# Altium schematic symbol library 05E_IC.SchLib: 9 symbols
Pins are listed as number, name and electrical type; pins without a type are passive.

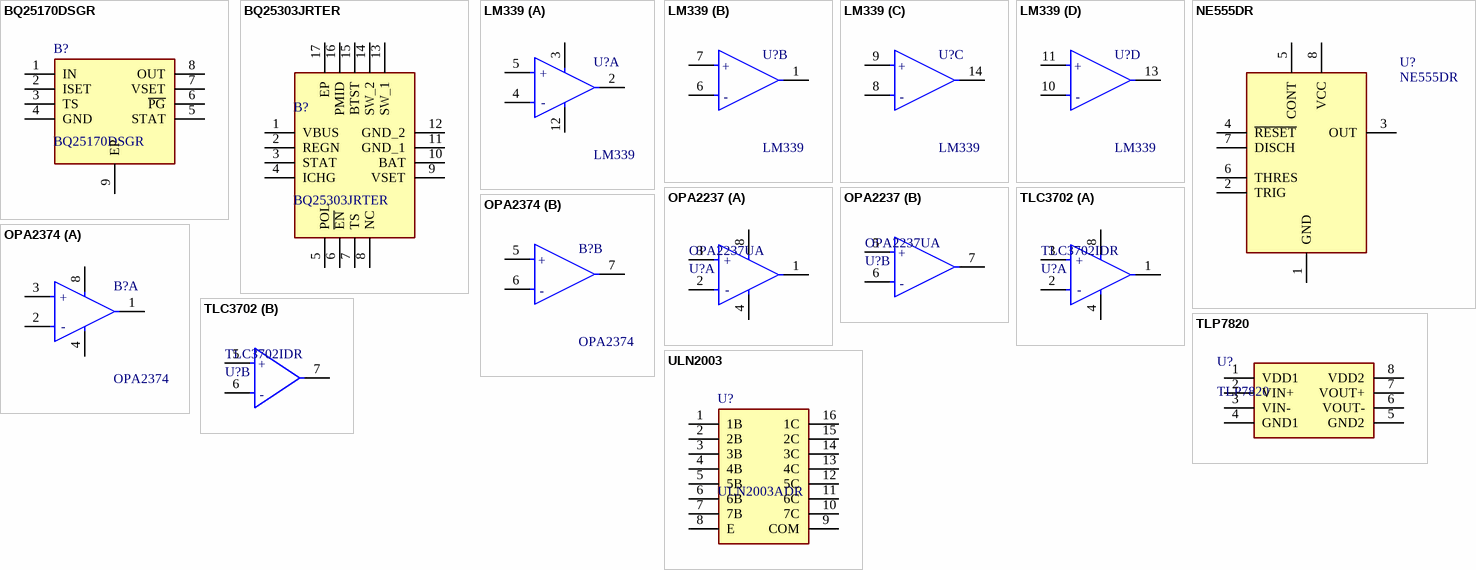
[diagram p0: symbols BQ25170DSGR to ULN2003]

## BQ25170DSGR
designator B?
Manufacturer_Name: Texas Instruments; Geometry.Height: 0.8mm; Mouser Part Number: 595-BQ25170DSGR; Mouser Price/Stock: https://www.mouser.co.uk/ProductDetail/Texas-Instruments/BQ25170DSGR?qs=iLbezkQI%252BsiCISFdSxQWaQ%3D%3D; Manufacturer_Part_Number: BQ25170DSGR; Datasheet Link: https://www.ti.com/lit/gpn/bq25170
footprint BQ25170_WSON8
pins: 1 IN, 2 ISET, 3 TS, 4 GND, 5 STAT, 6 ~{PG}, 7 VSET, 8 OUT, 9 EP

## BQ25303JRTER
designator B?
Battery Management Standalone 1-cell 17-V, 3.0-A battery charger with JEITA battery temperature monitoring 16-WQFN -40 to 85; Manufacturer_Name: Texas Instruments; Geometry.Height: 0.8mm; Mouser Part Number: 595-BQ25303JRTER; Mouser Price/Stock: https://www.mouser.co.uk/ProductDetail/Texas-Instruments/BQ25303JRTER?qs=DRkmTr78QARA1C7%2F12q3og%3D%3D; Manufacturer_Part_Number: BQ25303JRTER; Datasheet Link: https://www.ti.com/lit/ds/symlink/bq25303j.pdf?ts=1614639374775&ref_url=https%253A%252F%252Fwww.ti.com%252Fpower-management%252Fbattery-management%252Fcharger-ics%252Fproducts.html
footprint BQ25303J-QFN17N
pins: 1 VBUS, 2 REGN, 3 STAT, 4 ICHG, 5 POL, 6 ~{EN}, 7 TS, 8 NC, 9 VSET, 10 BAT, 11 GND_1, 12 GND_2, 13 SW_1, 14 SW_2, 15 BTST, 16 PMID, 17 EP

## LM339
designator U?
Quad Differential Comparator; Manufacturer_Name: Texas Instruments; Manufacturer_Part_Number: LM339PWRG4; Geometry.Height: 1.2mm; Datasheet Link: http://www.ti.com/lit/gpn/LM339
footprint LM339_TSSOP14N
part A pins: 2 1OUT, 3 VDD (power), 4 1IN- (hiz), 5 1IN+ (hiz), 12 GND (power)
part B pins: 1 2OUT, 6 2IN- (hiz), 7 2IN+ (hiz)
part C pins: 8 3IN- (hiz), 9 3IN+ (hiz), 14 3OUT
part D pins: 10 4IN- (hiz), 11 4IN+ (hiz), 13 4OUT
part A text: +; -
part B text: +; -
part C text: +; -
part D text: +; -

## NE555DR
designator U?
Single Precision Timer; Manufacturer_Name: Texas Instruments; Geometry.Height: 1.75mm; Manufacturer_Part_Number: NE555DR; Datasheet Link: https://www.ti.com/lit/gpn/ne555
footprint NE555DR_SOIC8N
pins: 1 GND, 2 TRIG, 3 OUT, 4 ~{RESET}, 5 CONT, 6 THRES, 7 DISCH, 8 VCC

## OPA2237
designator U?, comment OPA2237UA
Single-Supply Operational Amplifiers MicroAmplifier Series; Common Mode Rejection Ratio: 84dB; Power Supply Rejection Ratio (PSRR): 85dB; Output Current per Channel: 8mA; Max Supply Current: 20uA; Input Bias Current: 5pA; Min Supply Voltage: 3V; Propagation Delay: 4.5us; Input Offset Voltage (Vos): 5mV; Output Current: 20mA; Max Power Dissipation: 725mW; Output Type: TTL; Quiescent Current: 65uA; Number of Elements: 2; Nominal Supply Current: 40uA; Max Supply Voltage: 16V; Response Time: 1.1us; Operating Supply Voltage: 5V; Contact Plating: Gold; Case/Package: SOIC; Type: General Purpose; Package Quantity: 1; Max Operating Temperature: 85°C; Weight: 0.002561oz; Min Operating Temperature: -40°C; Length: 4.9mm; Number of Pins: 8; RoHS Compliant: Yes; Height: 1.58mm; Power Dissipation: 725mW; Packaging: Tape and Reel; Max Input Current: 5pA; REACH SVHC: No SVHC; Radiation Hardening: No; Mount: Surface Mount; Lead Free: Lead Free; Number of Channels: 2; Width: 3.91mm
footprint OPA2237_SOIC8N
part A pins: 1 1OUT, 2 1IN- (hiz), 3 1IN+ (hiz), 4 GND (power), 8 VDD (power)
part B pins: 5 2IN+ (hiz), 6 2IN- (hiz), 7 2OUT
part A text: +; -
part B text: +; -

## OPA2374
designator B?
Texas Instruments OPA2374AID, Dual Op Amp, 6.5MHz CMOS, Rail to Rail, 3 V, 5 V, 8-Pin SOIC; Geometry.Height: 1.75mm; Manufacturer_Name: Texas Instruments; Manufacturer_Part_Number: OPA2374AID; Datasheet Link: http://www.ti.com/lit/gpn/opa2374
footprint OPA2374_SOIC8
part A pins: 1 1OUT, 2 1IN- (hiz), 3 1IN+ (hiz), 4 GND (power), 8 VDD (power)
part B pins: 5 2IN+ (hiz), 6 2IN- (hiz), 7 2OUT
part A text: +; -
part B text: +; -

## TLC3702
designator U?, comment TLC3702IDR
IC DUAL V COMP 8-SOIC; Common Mode Rejection Ratio: 84dB; Power Supply Rejection Ratio (PSRR): 85dB; Output Current per Channel: 8mA; Max Supply Current: 20uA; Input Bias Current: 5pA; Min Supply Voltage: 3V; Propagation Delay: 4.5us; Input Offset Voltage (Vos): 5mV; Output Current: 20mA; Max Power Dissipation: 725mW; Output Type: TTL; Quiescent Current: 65uA; Number of Elements: 2; Nominal Supply Current: 40uA; Max Supply Voltage: 16V; Response Time: 1.1us; Operating Supply Voltage: 5V; Contact Plating: Gold; Case/Package: SOIC; Type: General Purpose; Package Quantity: 1; Max Operating Temperature: 85°C; Weight: 0.002561oz; Min Operating Temperature: -40°C; Length: 4.9mm; Number of Pins: 8; RoHS Compliant: Yes; Height: 1.58mm; Power Dissipation: 725mW; Packaging: Tape and Reel; Max Input Current: 5pA; REACH SVHC: No SVHC; Radiation Hardening: No; Mount: Surface Mount; Lead Free: Lead Free; Number of Channels: 2; Width: 3.91mm
footprint TLC3702_SOIC8
part A pins: 1 1OUT, 2 1IN- (hiz), 3 1IN+ (hiz), 4 GND (power), 8 VDD (power)
part B pins: 5 2IN+ (hiz), 6 2IN- (hiz), 7 2OUT
part A text: +; -
part B text: +; -

## TLP7820
designator U?
Sigma-delta(Σ-Δ)analog-to-digital converter technology / Optical coupled isolation amplifier; Manufacturer_Name: Toshiba; Manufacturer_Part_Number: TLP7820(TP4,E; Datasheet Link: https://www.mouser.in/datasheet/2/408/TLP7820_datasheet_en_20200625-963948.pdf; Height: 2.2mm; Mouser Part Number: 757-TLP7820TP4E; Mouser Price/Stock: https://www.mouser.co.uk/ProductDetail/Toshiba/TLP7820TP4E?qs=w%2Fv1CP2dgqp6O%2Fj84Fdf0Q%3D%3D; Arrow Part Number: TLP7820(TP4,E; Arrow Price/Stock: https://www.arrow.com/en/products/tlp7820-tp4e/toshiba?region=nac
footprint TLP7820_SOIC8W
pins: 1 VDD1, 2 VIN+, 3 VIN-, 4 GND1, 5 GND2, 6 VOUT-, 7 VOUT+, 8 VDD2

## ULN2003
designator U?, comment ULN2003ADR
Trans Darlington NPN 50V 0.5A SOIC16 Texas Instruments ULN2003ADR, 7-element NPN Darlington Transistor Array, 0.5 A 50 V, 16-Pin SOIC; Geometry.Height: 1.75mm; Manufacturer_Name: Texas Instruments; Manufacturer_Part_Number: ULN2003ADR; Datasheet Link: http://www.ti.com/lit/ds/symlink/uln2003a.pdf
footprint ULN2003_SOIC16N
pins: 1 1B, 2 2B, 3 3B, 4 4B, 5 5B, 6 6B, 7 7B, 8 E, 9 COM, 10 7C, 11 6C, 12 5C, 13 4C, 14 3C, 15 2C, 16 1C